# Altium schematic symbol library Conn,JST,5Pin,1mm,Right,SMD.Schlib: 1 symbol
Pins are listed as number, name and electrical type; pins without a type are passive.

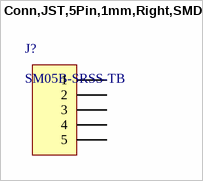
[diagram p0: symbol Conn,JST,5Pin,1mm,Right,SMD]

## Conn,JST,5Pin,1mm,Right,SMD
designator J?, comment SM05B-SRSS-TB
Connector Header Surface Mount, Right Angle 5 position 0.039" (1.00mm)
pins: 1, 2, 3, 4, 5